# EAGLE library part CD4013BCMX (library Fairchild_By_element14_Batch_1)
Dual D-Type Flip-Flop
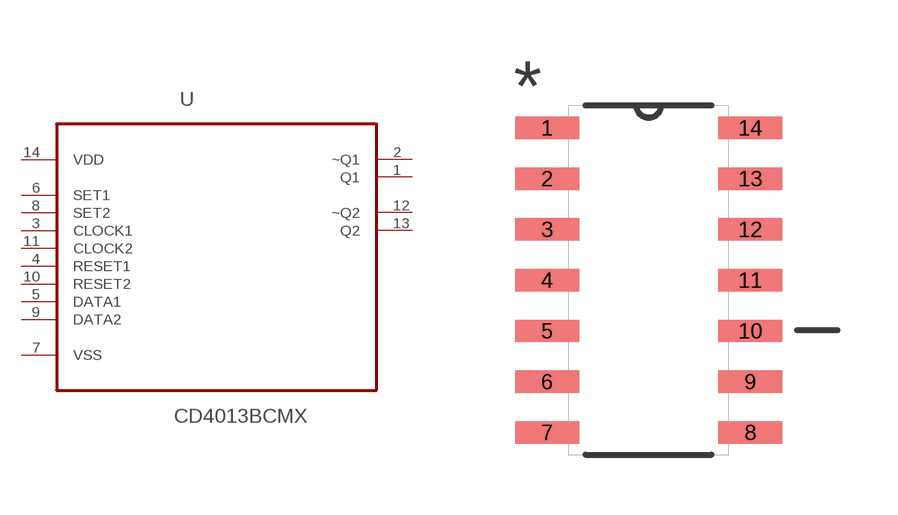
[diagram p149: symbol with the pads of SOIC127P600X175-14N; footprint SOIC127P600X175-14N]

Designator prefix U

## CD4013BCMX (MPN: CD4013BCMX; OC_FARNELL: -; OC_NEWARK: 18C6053; PACKAGE: SOIC-14; SUPPLIER: Fairchild)  [SOIC127P600X175-14N]
1  Q1  out
2  ~Q1  out
3  CLOCK1  in
4  RESET1  in
5  DATA1  in
6  SET1  in
7  VSS  pwr
8  SET2  in
9  DATA2  in
10  RESET2  in
11  CLOCK2  in
12  ~Q2  out
13  Q2  out
14  VDD  pwr

## Footprint SOIC127P600X175-14N (pad centres in mm)
smd 1.6 x 0.559: 1 -2.54,3.81; 2 -2.54,2.54; 3 -2.54,1.27; 4 -2.54,0; 5 -2.54,-1.27; 6 -2.54,-2.54; 7 -2.54,-3.81; 8 2.54,-3.81; 9 2.54,-2.54; 10 2.54,-1.27; 11 2.54,0; 12 2.54,1.27; 13 2.54,2.54; 14 2.54,3.81